# Altium footprint library SKYWORKS MLPD-6 1X1MM.PCBLIB: 1 footprints
Each footprint in its own frame and in the unit in brackets; x right, y up, seen from the top. Pads: shape width x height; smd on the part's side, far side on the other; paste and mask are expansions set on the pad; w line width, h text height; cw(c..) or ccw(c..) is an arc to the next point about the centre after c.
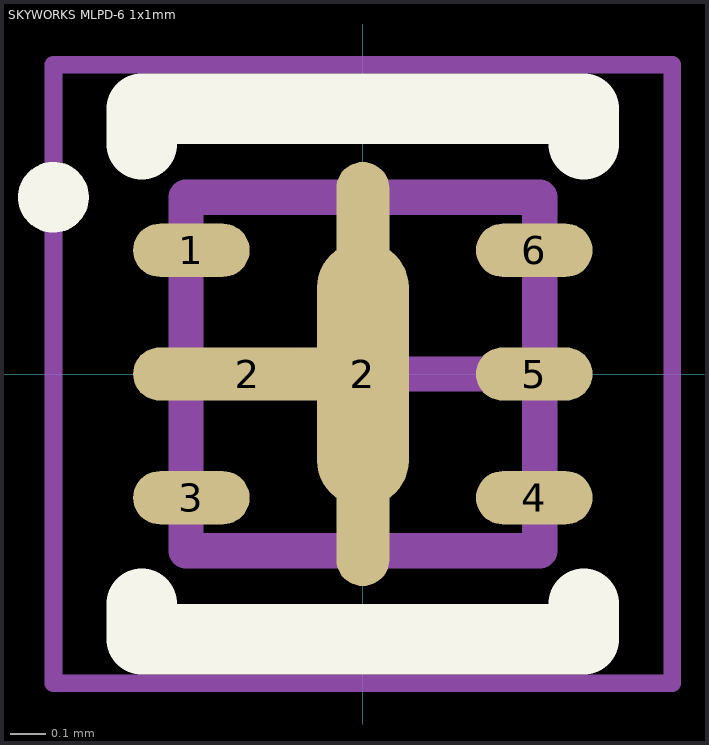
[diagram p0: the footprint, top view; thin cyan lines are the x and y axes]

## SKYWORKS MLPD-6 1x1mm [mm] "DFN, 6-Leads, Body 1.50x1.50mm, Pitch 0.50mm, Thermal Pad 0.70x1.20mm, IPC High Density"
height 0.5
pads (8):
  oval 0.33x0.15 smd: 1(-0.485,0.35) 3(-0.485,-0.35) 4(0.485,-0.35) 5(0.485,0) 6(0.485,0.35)
  oval 0.65x0.15 smd: 2(-0.325,0)
  oval 0.26x0.75 smd: 2(0,0)
  oval 0.15x1.2 smd: 2(0,0)
Top Overlay:
  circle w0.1: c-0.875,0.5 r0.05
  lines w0.2: -0.625,-0.65 -0.625,-0.75 0.625,-0.75 0.625,-0.65 ; -0.625,0.65 -0.625,0.75 0.625,0.75 0.625,0.65
Mechanical 13:
  lines w0.1: -0.5,-0.5 0.5,-0.5 0.5,0.5 -0.5,0.5 -0.5,-0.5
Mechanical 15:
  lines w0.05: -0.875,-0.875 0.875,-0.875 0.875,0.875 -0.875,0.875 -0.875,-0.875
  lines w0.1: -0.5,0 0.5,0 ; 0,-0.5 0,0.5
3D body: height 0.5, standoff 0.01, extent -0.5,-0.5 0.5,0.5